# EAGLE library part ESP32S3DEVKITC-1-DUAL (library FaBo-MPU)
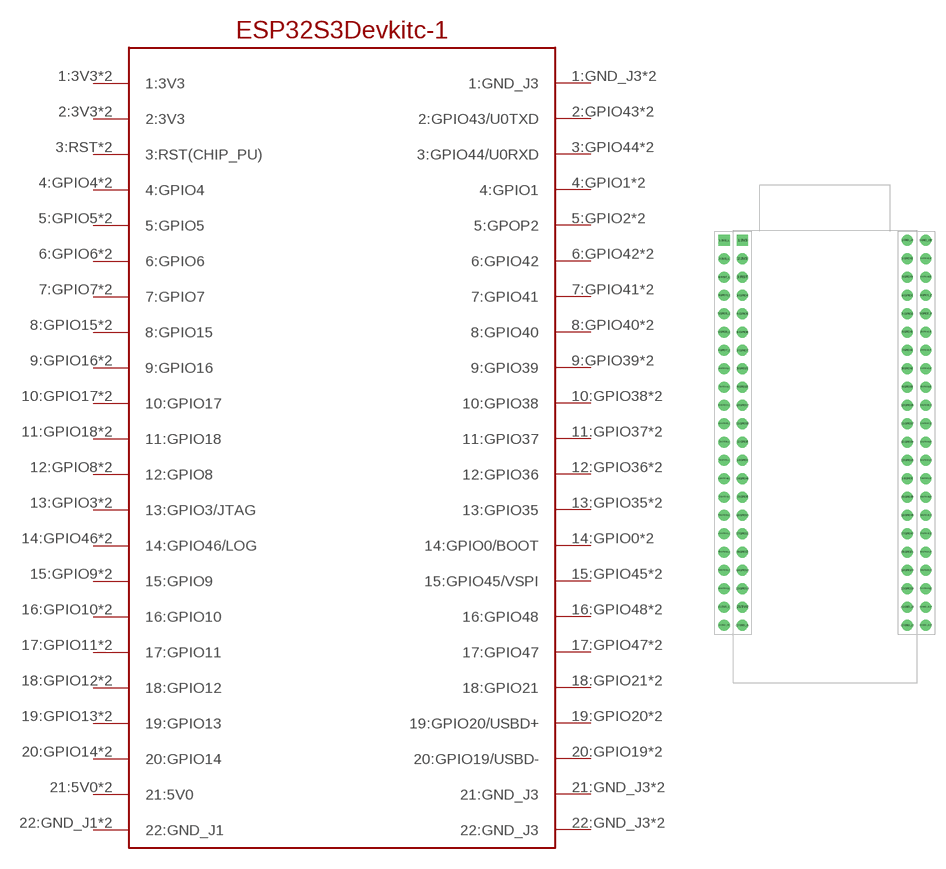
[diagram p16: symbol with the pads of ESP32S3DEVKITC-1-DUAL; footprint ESP32S3DEVKITC-1-DUAL]

Designator prefix -

## ESP32S3DEVKITC-1-DUAL  [ESP32S3DEVKITC-1-DUAL]
1:3V3  1:3V3  pwr
1:3V3_L  1:3V3  pwr
1:GND_J3  1:GND_J3
1:GND_J3R  1:GND_J3
2:3V3  2:3V3  pwr
2:3V3_L  2:3V3  pwr
2:GPIO43  2:GPIO43/U0TXD
2:GPIO43_R  2:GPIO43/U0TXD
3:GPIO44  3:GPIO44/U0RXD
3:GPIO44_R  3:GPIO44/U0RXD
3:RST  3:RST(CHIP_PU)  in
3:RST_L  3:RST(CHIP_PU)  in
4:GPIO1  4:GPIO1
4:GPIO1_R  4:GPIO1
4:GPIO4  4:GPIO4
4:GPIO4_L  4:GPIO4
5:GPIO2  5:GPOP2
5:GPIO2_R  5:GPOP2
5:GPIO5  5:GPIO5
5:GPIO5_L  5:GPIO5
6:GPIO6  6:GPIO6
6:GPIO6_L  6:GPIO6
6:GPIO42  6:GPIO42
6:GPIO42_R  6:GPIO42
7:GPIO7  7:GPIO7
7:GPIO7_L  7:GPIO7
7:GPIO41  7:GPIO41
7:GPIO41_R  7:GPIO41
8:GPIO15  8:GPIO15
8:GPIO15_L  8:GPIO15
8:GPIO40  8:GPIO40
8:GPIO40_R  8:GPIO40
9:GPIO16  9:GPIO16
9:GPIO16_L  9:GPIO16
9:GPIO39  9:GPIO39
9:GPIO39_R  9:GPIO39
10:GPIO17  10:GPIO17
10:GPIO17_L  10:GPIO17
10:GPIO38  10:GPIO38
10:GPIO38_R  10:GPIO38
11:GPIO18  11:GPIO18
11:GPIO18_L  11:GPIO18
11:GPIO37  11:GPIO37
11:GPIO37_R  11:GPIO37
12:GPIO8  12:GPIO8
12:GPIO8_L  12:GPIO8
12:GPIO36  12:GPIO36
12:GPIO36_R  12:GPIO36
13:GPIO3  13:GPIO3/JTAG  in
13:GPIO3_L  13:GPIO3/JTAG  in
13:GPIO35  13:GPIO35
13:GPIO35_R  13:GPIO35
14:GPIO0  14:GPIO0/BOOT  in
14:GPIO0_R  14:GPIO0/BOOT  in
14:GPIO46  14:GPIO46/LOG  in
14:GPIO46_L  14:GPIO46/LOG  in
15:GPIO9  15:GPIO9
15:GPIO9_L  15:GPIO9
15:GPIO45  15:GPIO45/VSPI  sup
15:GPIO45_R  15:GPIO45/VSPI  sup
16:GPIO10  16:GPIO10
16:GPIO10_L  16:GPIO10
16:GPIO48  16:GPIO48
16:GPIO48_R  16:GPIO48
17:GPIO11  17:GPIO11
17:GPIO11_L  17:GPIO11
17:GPIO47  17:GPIO47
17:GPIO47_R  17:GPIO47
18:GPIO12  18:GPIO12
18:GPIO12_L  18:GPIO12
18:GPIO21  18:GPIO21
18:GPIO21_R  18:GPIO21
19:GPIO13  19:GPIO13
19:GPIO13_L  19:GPIO13
19:GPIO20  19:GPIO20/USBD+
19:GPIO20_R  19:GPIO20/USBD+
20:GPIO14  20:GPIO14
20:GPIO14_L  20:GPIO14
20:GPIO19  20:GPIO19/USBD-
20:GPIO19_R  20:GPIO19/USBD-
21:5V0  21:5V0  pwr
21:5V0_L  21:5V0  pwr
21:GND_J3  21:GND_J3  pwr
21:GND_J3_R  21:GND_J3  pwr
22:GND_J1  22:GND_J1  pwr
22:GND_J1L  22:GND_J1  pwr
22:GND_J3  22:GND_J3  pwr
22:GND_J3_R  22:GND_J3  pwr

## Footprint ESP32S3DEVKITC-1-DUAL (pad centres in mm)
drill 1.02 square: 1:3V3 -11.43,26.67; 1:3V3_L -13.97,26.67
drill 1.02: 1:GND_J3 11.43,26.67; 1:GND_J3R 13.97,26.67; 2:3V3 -11.43,24.13; 2:3V3_L -13.97,24.13; 2:GPIO43 11.43,24.13; 2:GPIO43_R 13.97,24.13; 3:GPIO44 11.43,21.59; 3:GPIO44_R 13.97,21.59; 3:RST -11.43,21.59; 3:RST_L -13.97,21.59; 4:GPIO1 11.43,19.05; 4:GPIO1_R 13.97,19.05; 4:GPIO4 -11.43,19.05; 4:GPIO4_L -13.97,19.05; 5:GPIO2 11.43,16.51; 5:GPIO2_R 13.97,16.51; 5:GPIO5 -11.43,16.51; 5:GPIO5_L -13.97,16.51; 6:GPIO6 -11.43,13.97; 6:GPIO6_L -13.97,13.97; 6:GPIO42 11.43,13.97; 6:GPIO42_R 13.97,13.97; 7:GPIO7 -11.43,11.43; 7:GPIO7_L -13.97,11.43; 7:GPIO41 11.43,11.43; 7:GPIO41_R 13.97,11.43; 8:GPIO15 -11.43,8.89; 8:GPIO15_L -13.97,8.89; 8:GPIO40 11.43,8.89; 8:GPIO40_R 13.97,8.89; 9:GPIO16 -11.43,6.35; 9:GPIO16_L -13.97,6.35; 9:GPIO39 11.43,6.35; 9:GPIO39_R 13.97,6.35; 10:GPIO17 -11.43,3.81; 10:GPIO17_L -13.97,3.81; 10:GPIO38 11.43,3.81; 10:GPIO38_R 13.97,3.81; 11:GPIO18 -11.43,1.27; 11:GPIO18_L -13.97,1.27; 11:GPIO37 11.43,1.27; 11:GPIO37_R 13.97,1.27; 12:GPIO8 -11.43,-1.27; 12:GPIO8_L -13.97,-1.27; 12:GPIO36 11.43,-1.27; 12:GPIO36_R 13.97,-1.27; 13:GPIO3 -11.43,-3.81; 13:GPIO3_L -13.97,-3.81; 13:GPIO35 11.43,-3.81; 13:GPIO35_R 13.97,-3.81; 14:GPIO0 11.43,-6.35; 14:GPIO0_R 13.97,-6.35; 14:GPIO46 -11.43,-6.35; 14:GPIO46_L -13.97,-6.35; 15:GPIO9 -11.43,-8.89; 15:GPIO9_L -13.97,-8.89; 15:GPIO45 11.43,-8.89; 15:GPIO45_R 13.97,-8.89; 16:GPIO10 -11.43,-11.43; 16:GPIO10_L -13.97,-11.43; 16:GPIO48 11.43,-11.43; 16:GPIO48_R 13.97,-11.43; 17:GPIO11 -11.43,-13.97; 17:GPIO11_L -13.97,-13.97; 17:GPIO47 11.43,-13.97; 17:GPIO47_R 13.97,-13.97; 18:GPIO12 -11.43,-16.51; 18:GPIO12_L -13.97,-16.51; 18:GPIO21 11.43,-16.51; 18:GPIO21_R 13.97,-16.51; 19:GPIO13 -11.43,-19.05; 19:GPIO13_L -13.97,-19.05; 19:GPIO20 11.43,-19.05; 19:GPIO20_R 13.97,-19.05; 20:GPIO14 -11.43,-21.59; 20:GPIO14_L -13.97,-21.59; 20:GPIO19 11.43,-21.59; 20:GPIO19_R 13.97,-21.59; 21:5V0 -11.43,-24.13; 21:5V0_L -13.97,-24.13; 21:GND_J3 11.43,-24.13; 21:GND_J3_R 13.97,-24.13; 22:GND_J1 -11.43,-26.67; 22:GND_J1L -13.97,-26.67; 22:GND_J3 11.43,-26.67; 22:GND_J3_R 13.97,-26.67